# Altium schematic symbol library Texas_Instruments.SchLib: 96 symbols
Pins are listed as number, name and electrical type; pins without a type are passive.

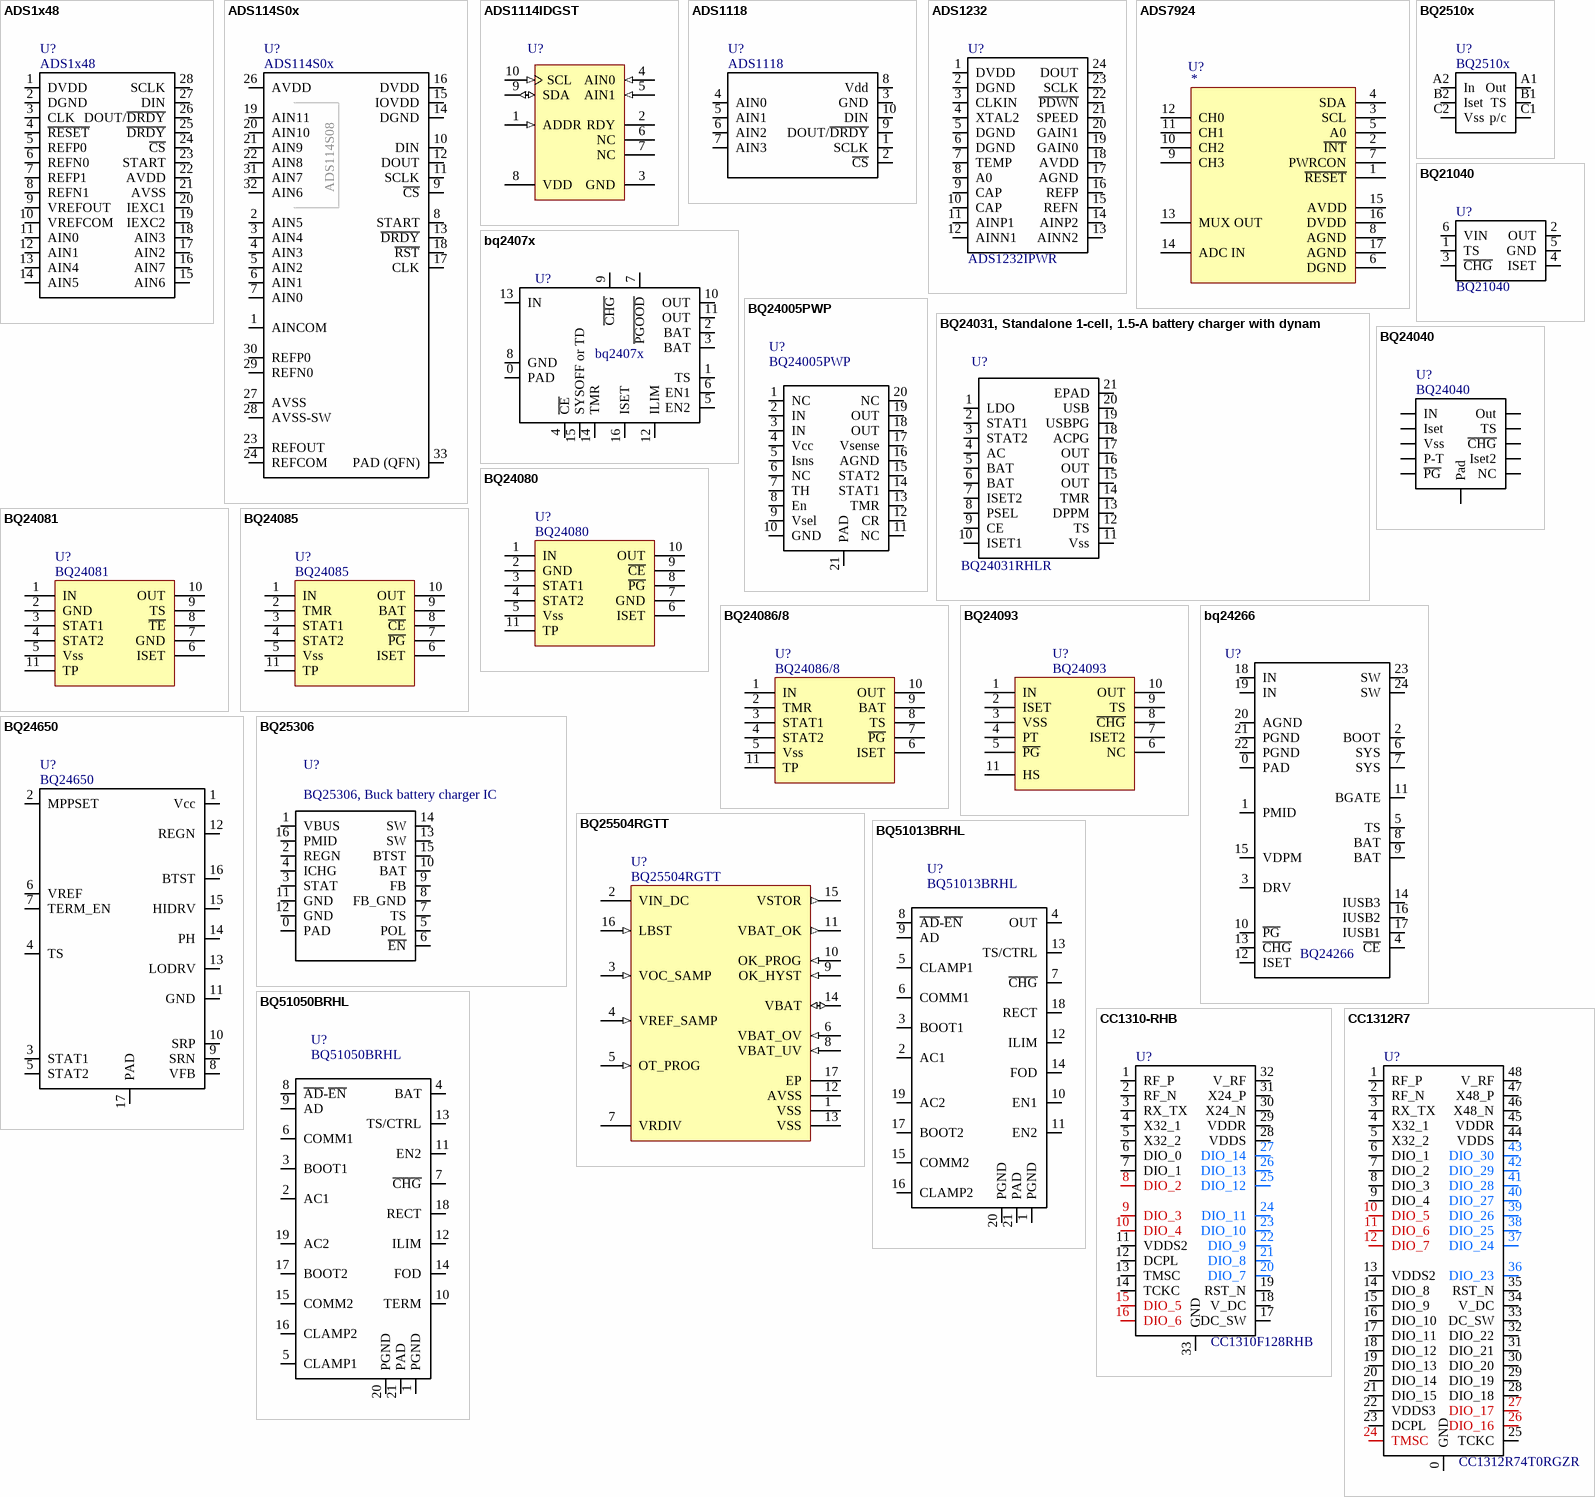
[diagram p0: symbols ADS1x48 to CC1312R7]

## ADS1x48
designator U?
pins: 1 DVDD, 2 DGND, 3 CLK, 4 ~{RESET}, 5 REFP0, 6 REFN0, 7 REFP1, 8 REFN1, 9 VREFOUT, 10 VREFCOM, 11 AIN0, 12 AIN1, 13 AIN4, 14 AIN5, 15 AIN6, 16 AIN7, 17 AIN2, 18 AIN3, 19 IEXC2, 20 IEXC1, 21 AVSS, 22 AVDD, 23 START, 24 ~{CS}, 25 ~{DRDY}, 26 DOUT/~{DRDY}, 27 DIN, 28 SCLK

## ADS114S0x
designator U?
footprint RHB (S-PVQFN-N32) -s (-small central pad)
pins: 1 AINCOM, 2 AIN5, 3 AIN4, 4 AIN3, 5 AIN2, 6 AIN1, 7 AIN0, 8 START, 9 ~{CS}, 10 DIN, 11 SCLK, 12 DOUT, 13 ~{DRDY}, 14 DGND, 15 IOVDD, 16 DVDD, 17 CLK, 18 ~{RST}, 19 AIN11, 20 AIN10, 21 AIN9, 22 AIN8, 23 REFOUT, 24 REFCOM, 26 AVDD, 27 AVSS, 28 AVSS-SW, 29 REFN0, 30 REFP0, 31 AIN7, 32 AIN6, 33 PAD (QFN)
text: ADS114S08

## ADS1114IDGST
designator U?
TEXAS INSTRUMENTS - ADS1114IDGST - IC, ADC 16BIT 860SPS LP 10MSOP; Catalog number: 1762979; Value: ADS1114IDGS
footprint RM-10_N (TSSOP, 10-Leads, Body 3x3mm, Pitch 0.5mm, IPC Medium Density)
pins: 1 ADDR (in) "I2C slave address select", 2 RDY, 3 GND (power) "Ground", 4 AIN0 (in) "Differential channel 1: Positive input or single-ended channel 1 input", 5 AIN1 (in) "Differential channel 1: Negative input or single-ended channel 2 input", 6 NC, 7 NC, 8 VDD (power) "Power supply: 2.0V to 5.5V", 9 SDA (io) "Serial data: Transmits and receives data", 10 SCL (in) "Serial clock input: Clocks data on SDA"

## ADS1118
designator U?
footprint VSSOP-10 (TSSOP, 10-Leads, Body 3,00x3,00mm, Pitch 0,50mm, IPC Medium Density)
pins: 1 SCLK, 2 ~{CS}, 3 GND, 4 AIN0, 5 AIN1, 6 AIN2, 7 AIN3, 8 Vdd, 9 DOUT/~{DRDY}, 10 DIN

## ADS1232
designator U?, comment ADS1232IPWR
ADS1232 2-Channel, 24-Bit, Delta-Sigma ADC for Bridge Sensors; Manufacturer: Texas Instruments; Part Number: ADS1232IPWR; Price 1: 8; Price 100: 3.7; Price 1000: 2.5
footprint PW0024A
pins: 1 DVDD, 2 DGND, 3 CLKIN, 4 XTAL2, 5 DGND, 6 DGND, 7 TEMP, 8 A0, 9 CAP, 10 CAP, 11 AINP1, 12 AINN1, 13 AINN2, 14 AINP2, 15 REFN, 16 REFP, 17 AGND, 18 AVDD, 19 GAIN0, 20 GAIN1, 21 SPEED, 22 ~{PDWN}, 23 SCLK, 24 DOUT

## ADS7924
designator U?
2.2V, 12-Bit, 4-Channel, microPOWER™  ANALOG-TO-DIGITAL CONVERTER WITH I  2C INTERFACE; Value: ADS7924; Price: *
footprint QFN 16 pins 3x3 V2
pins: 1 ~{RESET}, 2 ~{INT}, 3 SCL, 4 SDA, 5 A0, 6 DGND, 7 PWRCON, 8 AGND, 9 CH3, 10 CH2, 11 CH1, 12 CH0, 13 MUX OUT, 14 ADC IN, 15 AVDD, 16 DVDD, 17 AGND

## bq2407x
designator U?
footprint RGT (S-PVQFN-N16)
pins: 0 PAD, 1 TS, 2 BAT, 3 BAT, 4 ~{CE}, 5 EN2, 6 EN1, 7 ~{PGOOD}, 8 GND, 9 ~{CHG}, 10 OUT, 11 OUT, 12 ILIM, 13 IN, 14 TMR, 15 SYSOFF or TD, 16 ISET

## BQ2510x
designator U?, comment value BQ2510x  (hidden comment: BQ2510x, Li Ion battery charger IC)
Manufacturer: Texas Instruments; Part Number: BQ2510x; Price 1: *; Price 100: *; Price 1000: *
footprint YFP0006 (DSBGA 6)
pins: A1 Out, A2 In, B1 TS, B2 Iset, C1 p/c, C2 Vss

## BQ21040
designator U?
footprint SOT26A-6N (SOT23, 6-Leads, Body 2.9x1.7mm, Pitch 0.95mm, Lead Span 2.8mm, IPC Medium Density)
pins: 1 TS, 2 OUT, 3 ~{CHG}, 4 ISET, 5 GND, 6 VIN

## BQ24005PWP
designator U?, comment value BQ24005PWP  (hidden comment: Li-Ion charger IC BQ24005, 2S, Linear)  (graphical)
Manufacturer: Texas Instruments; Part Number: BQ24005PWP; Price 1: 3.52; Price 100: 2.53; Price 1000: 1.82
footprint PWP (R-PDSO-G20)
pins: 1 NC, 2 IN, 3 IN, 4 Vcc, 5 Isns, 6 NC, 7 TH, 8 En, 9 Vsel, 10 GND, 11 NC, 12 CR, 13 TMR, 14 STAT1, 15 STAT2, 16 AGND, 17 Vsense, 18 OUT, 19 OUT, 20 NC, 21 PAD

## BQ24031, Standalone 1-cell, 1.5-A battery charger with dynamic Power Path, 4.1V
designator U?  Part Number: BQ24031RHLR  (hidden comment: BQ24031, Standalone 1-cell, 1.5-A battery charger with dynamic Power Path, 4.1V)
Manufacturer: Texas Instruments
footprint RHL0020A
pins: 1 LDO, 2 STAT1, 3 STAT2, 4 AC, 5 BAT, 6 BAT, 7 ISET2, 8 PSEL, 9 CE, 10 ISET1, 11 Vss, 12 TS, 13 DPPM, 14 TMR, 15 OUT, 16 OUT, 17 OUT, 18 ACPG, 19 USBPG, 20 USB, 21 EPAD

## BQ24040
designator U?
Manufacturer: Texas Instruments; Part Number: BQ24040; Price 1: 1.10; Price 100: 0.71; Price 1000: 0.37
footprint WSON 10 (DSQ0010A)
pins: 0 Pad, 1 IN, 2 Iset, 3 Vss, 4 P-T, 5 ~{PG}, 6 NC, 7 Iset2, 8 ~{CHG}, 9 TS, 10 Out

## BQ24080
designator U?
50 mA SINGLE-CHIP Li-Ion/Li-Pol CHARGE MANAGEMENT IC  C3  4.7 Fm  Input Power  R1  1.5 kW  R2  1.5 kW  WITH THERMAL REGULATION; Catalog: *; Catalog number: *; Price: *
pins: 1 IN, 2 GND, 3 STAT1, 4 STAT2, 5 Vss, 6 ISET, 7 GND, 8 ~{PG}, 9 ~{CE}, 10 OUT, 11 TP

## BQ24081
designator U?
50 mA SINGLE-CHIP Li-Ion/Li-Pol CHARGE MANAGEMENT IC  C3  4.7 Fm  Input Power  R1  1.5 kW  R2  1.5 kW  WITH THERMAL REGULATION; Catalog: *; Catalog number: *; Price: *
pins: 1 IN, 2 GND, 3 STAT1, 4 STAT2, 5 Vss, 6 ISET, 7 GND, 8 ~{TE}, 9 TS, 10 OUT, 11 TP

## BQ24085
designator U?
50 mA SINGLE-CHIP Li-Ion/Li-Pol CHARGE MANAGEMENT IC  C3  4.7 Fm  Input Power  R1  1.5 kW  R2  1.5 kW  WITH THERMAL REGULATION; Catalog: *; Catalog number: *; Price: *
pins: 1 IN, 2 TMR, 3 STAT1, 4 STAT2, 5 Vss, 6 ISET, 7 ~{PG}, 8 ~{CE}, 9 BAT, 10 OUT, 11 TP

## BQ24086/8
designator U?
50 mA SINGLE-CHIP Li-Ion/Li-Pol CHARGE MANAGEMENT IC  C3  4.7 Fm  Input Power  R1  1.5 kW  R2  1.5 kW  WITH THERMAL REGULATION; Catalog: *; Catalog number: *; Price: *
pins: 1 IN, 2 TMR, 3 STAT1, 4 STAT2, 5 Vss, 6 ISET, 7 ~{PG}, 8 TS, 9 BAT, 10 OUT, 11 TP

## BQ24093
designator U?
Battery Management 1A,Sgl-Inp,Sgl-Cell Li-Ion Batt Charger; Catalog: *; Catalog number: *; Price: *
pins: 1 IN, 2 ISET, 3 VSS, 4 PT, 5 ~{PG}, 6 NC, 7 ISET2, 8 ~{CHG}, 9 TS, 10 OUT, 11 HS

## bq24266
designator U?, comment BQ24266
footprint RGE (S-PVQFN-N24)
pins: 0 PAD, 1 PMID, 2 BOOT, 3 DRV, 4 ~{CE}, 5 TS, 6 SYS, 7 SYS, 8 BAT, 9 BAT, 10 ~{PG}, 11 BGATE, 12 ISET, 13 ~{CHG}, 14 IUSB3, 15 VDPM, 16 IUSB2, 17 IUSB1, 18 IN, 19 IN, 20 AGND, 21 PGND, 22 PGND, 23 SW, 24 SW

## BQ24650
designator U?
footprint RVA (S-PVQFN-N16) 0.25mm
pins: 1 Vcc, 2 MPPSET, 3 STAT1, 4 TS, 5 STAT2, 6 VREF, 7 TERM_EN, 8 VFB, 9 SRN, 10 SRP, 11 GND, 12 REGN, 13 LODRV, 14 PH, 15 HIDRV, 16 BTST, 17 PAD

## BQ25306
designator U?, comment BQ25306, Buck battery charger IC
Manufacturer: Texas Instruments; Part Number: BQ25306RTER; Price 1: 1.41; Price 100: 1.17; Price 1000: 0.63
footprint RTE (S-PWQFN-N16)
pins: 0 PAD, 1 VBUS, 2 REGN, 3 STAT, 4 ICHG, 5 POL, 6 ~{EN}, 7 TS, 8 FB_GND, 9 FB, 10 BAT, 11 GND, 12 GND, 13 SW, 14 SW, 15 BTST, 16 PMID

## BQ25504RGTT
designator U?
Value: BQ25504RGTT; Price: *; Catalog: *; Catalog number: *
footprint QFN_16_050p (QFN, 16-Leads, Body 3x3mm, Pitch 0.5mm, Thermal Pad 1.7x1.7mm, TI Recommended)
pins: 1 VSS (power) "Input General ground connection for the device", 2 VIN_DC (power) "DC voltage input from energy harvesters", 3 VOC_SAMP (in) "Sampling pin for MPPT network. To disable MPPT, connect to VSTOR", 4 VREF_SAMP (in) "Switched node for holding the reference set by resistors on VOC_SAMP for MPPT. When MPPT is disabled, input for reference voltage", 5 OT_PROG (in) "Digital Programming input for overtemperature threshold", 6 VBAT_OV (in) "Resistor divider input for over voltage threshold", 7 VRDIV (power) "Resistor divider biasing voltage.", 8 VBAT_UV (in) "Resistor divider input for under voltage threshold", 9 OK_HYST (in) "Resistor divider input for VBAT_OK hysteresis threshold", 10 OK_PROG (in) "Resistor divider input for VBAT_OK threshold", 11 VBAT_OK (out) "Digital battery good indicator referenced to VSTOR pin", 12 AVSS (power) "Signal ground connection for the device", 13 VSS (power) "General ground connection for the device", 14 VBAT (io) "Connection for storage elements", 15 VSTOR (out) "Connection for the system load, output of the boost converter", 16 LBST (in) "Inductor connection for the boost converter switching node", 17 EP "Exposed Thermal Pad"

## BQ51013BRHL
designator U?
Wireless charger IC; Manufacturer: Texas Instruments; Part Number: BQ51013BRHL; Price 100: 1.934; Price 1000: 1.096; Price 1: 2.21
footprint RHL0020A
pins: 1 PGND, 2 AC1, 3 BOOT1, 4 OUT, 5 CLAMP1, 6 COMM1, 7 ~{CHG}, 8 ~{AD}-~{EN}, 9 AD, 10 EN1, 11 EN2, 12 ILIM, 13 TS/CTRL, 14 FOD, 15 COMM2, 16 CLAMP2, 17 BOOT2, 18 RECT, 19 AC2, 20 PGND, 21 PAD

## BQ51050BRHL
designator U?
Wireless charger IC; Manufacturer: Texas Instruments; Part Number: BQ51050BRHL; Price 100: 2.3; Price 1000: 1.3; Price 1: 2.623
footprint RHL0020A
pins: 1 PGND, 2 AC1, 3 BOOT1, 4 BAT, 5 CLAMP1, 6 COMM1, 7 ~{CHG}, 8 ~{AD}-~{EN}, 9 AD, 10 TERM, 11 EN2, 12 ILIM, 13 TS/CTRL, 14 FOD, 15 COMM2, 16 CLAMP2, 17 BOOT2, 18 RECT, 19 AC2, 20 PGND, 21 PAD

## CC1310-RHB
designator U?, comment Part Number: CC1310F128RHB  (hidden comment: SimpleLink™ 32-bit Arm Cortex-M3 Sub-1 GHz wireless MCU with 128kB Flash)
Manufacturer: Texas Instruments; Price 1: 5.351; Price 100: 4.362; Price 1000: 2.908
footprint RHB (S-PVQFN-N32) (Normal size)
pins: 1 RF_P, 2 RF_N, 3 RX_TX, 4 X32_1, 5 X32_2, 6 DIO_0, 7 DIO_1, 8 DIO_2, 9 DIO_3, 10 DIO_4, 11 VDDS2, 12 DCPL, 13 TMSC, 14 TCKC, 15 DIO_5, 16 DIO_6, 17 DC_SW, 18 V_DC, 19 RST_N, 20 DIO_7, 21 DIO_8, 22 DIO_9, 23 DIO_10, 24 DIO_11, 25 DIO_12, 26 DIO_13, 27 DIO_14, 28 VDDS, 29 VDDR, 30 X24_N, 31 X24_P, 32 V_RF, 33 GND

## CC1312R7
designator U?, comment Part Number: CC1312R74T0RGZR  (hidden comment: SimpleLink™ Arm® Cortex®-M4F multiprotocol Sub-1 GHz wireless MCU with 704-kB Flash)
Manufacturer: Texas Instruments; Price 1: 7.18; Price 100: 5.85; Price 1000: 3.90
footprint RGZ0048A (RGZ VQFN 48-pin)
pins: 0 GND, 1 RF_P, 2 RF_N, 3 RX_TX, 4 X32_1, 5 X32_2, 6 DIO_1, 7 DIO_2, 8 DIO_3, 9 DIO_4, 10 DIO_5, 11 DIO_6, 12 DIO_7, 13 VDDS2, 14 DIO_8, 15 DIO_9, 16 DIO_10, 17 DIO_11, 18 DIO_12, 19 DIO_13, 20 DIO_14, 21 DIO_15, 22 VDDS3, 23 DCPL, 24 TMSC, 25 TCKC, 26 DIO_16, 27 DIO_17, 28 DIO_18, 29 DIO_19, 30 DIO_20, 31 DIO_21, 32 DIO_22, 33 DC_SW, 34 V_DC, 35 RST_N, 36 DIO_23, 37 DIO_24, 38 DIO_25, 39 DIO_26, 40 DIO_27, 41 DIO_28, 42 DIO_29, 43 DIO_30, 44 VDDS, 45 VDDR, 46 X48_N, 47 X48_P, 48 V_RF

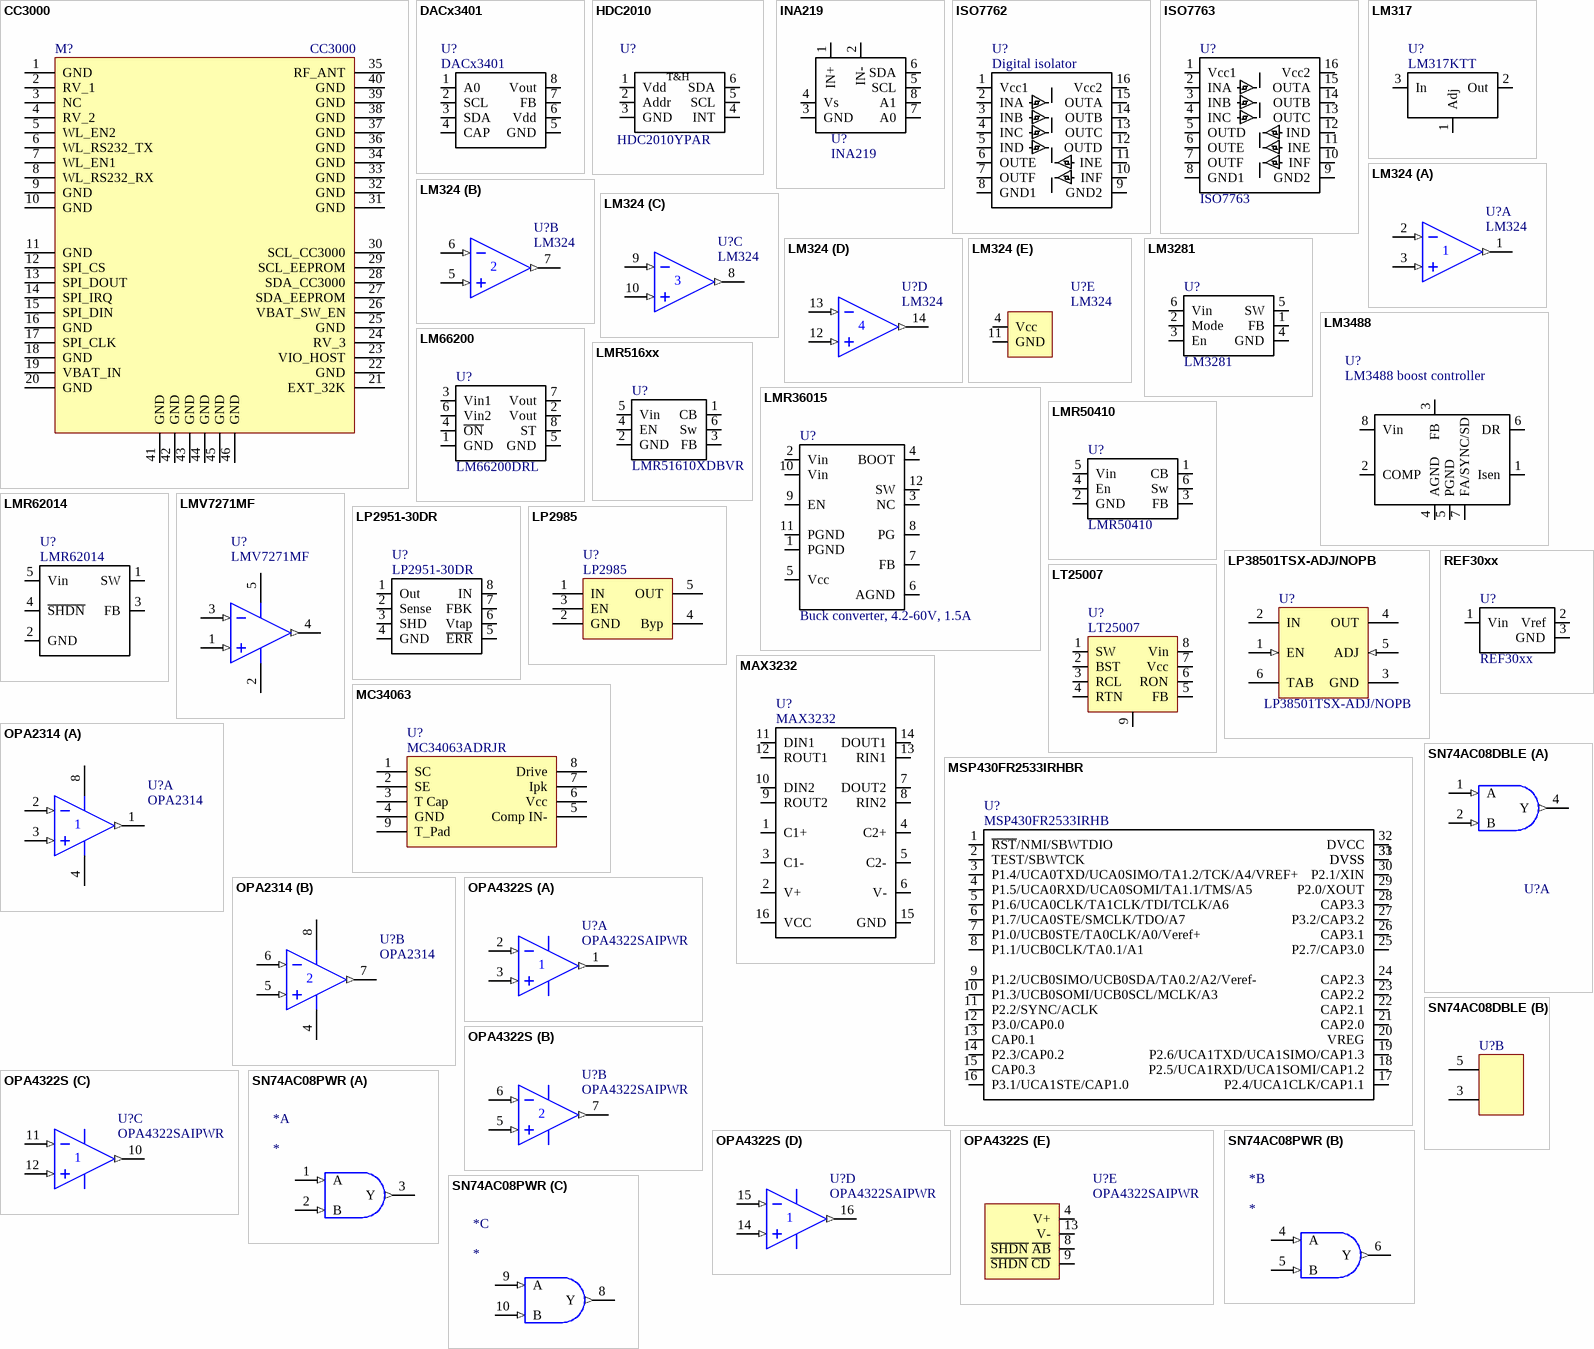
[diagram p1: symbols CC3000 to SN74AC08PWR]

## CC3000
designator M?
TI SimpleLink™ CC3000 Module – Wi-Fi 802.11b/g Network Processor; Value: *; Price: *; Catalog: *; Catalog number: *
footprint CC3000
pins: 1 GND, 2 RV_1, 3 NC, 4 RV_2, 5 WL_EN2, 6 WL_RS232_TX, 7 WL_EN1, 8 WL_RS232_RX, 9 GND, 10 GND, 11 GND, 12 SPI_CS, 13 SPI_DOUT, 14 SPI_IRQ, 15 SPI_DIN, 16 GND, 17 SPI_CLK, 18 GND, 19 VBAT_IN, 20 GND, 21 EXT_32K, 22 GND, 23 VIO_HOST, 24 RV_3, 25 GND, 26 VBAT_SW_EN, 27 SDA_EEPROM, 28 SDA_CC3000, 29 SCL_EEPROM, 30 SCL_CC3000, 31 GND, 32 GND, 33 GND, 34 GND, 35 RF_ANT, 36 GND, 37 GND, 38 GND, 39 GND, 40 GND, 41 GND, 42 GND, 43 GND, 44 GND, 45 GND, 46 GND

## DACx3401
designator U?, comment value DACx3401  (hidden comment: DACx3401, Digital to analog converter)
Manufacturer: Texas Instruments; Prat Number: DACx3401; Price 1: 1; Price 100: 0.6; Price 1000: 0.305
footprint DSG0008A-WSON-8
pins: 1 A0, 2 SCL, 3 SDA, 4 CAP, 5 GND, 6 Vdd, 7 FB, 8 Vout

## HDC2010
designator U?, comment Part Number: HDC2010YPAR  (hidden comment: HDC2010 Temperature and Humidity sensor)
Manufacturer: Texas Instruments; Price 1: 1.62; Price 100: 1.33; Price 1000: 0.72
footprint YPA0006 (DSBGA, wide, 1.45x1.45 - 0.675 mm max height)
pins: 1 Vdd, 2 Addr, 3 GND, 4 INT, 5 SCL, 6 SDA
text: T&H

## INA219
designator U?
footprint SOT23-8_0.25mm
pins: 1 IN+, 2 IN-, 3 GND, 4 Vs, 5 SCL, 6 SDA, 7 A0, 8 A1

## ISO7762
designator U?, comment Digital isolator
footprint DW0016B_HV
pins: 1 Vcc1, 2 INA, 3 INB, 4 INC, 5 IND, 6 OUTE, 7 OUTF, 8 GND1, 9 GND2, 10 INF, 11 INE, 12 OUTD, 13 OUTC, 14 OUTB, 15 OUTA, 16 Vcc2

## ISO7763
designator U?, comment Part Number: ISO7763  (hidden comment: Digital isolator, 3+3 channels)
Manufacturer: Texas Instruments; Price 1: 1.5; Price 100: 1.5; Price 1000: 1.5
footprint DW0016B_HV
pins: 1 Vcc1, 2 INA, 3 INB, 4 INC, 5 OUTD, 6 OUTE, 7 OUTF, 8 GND1, 9 GND2, 10 INF, 11 INE, 12 IND, 13 OUTC, 14 OUTB, 15 OUTA, 16 Vcc2

## LM317
designator U?, comment Part Number: LM317KTT  (hidden comment: LM317, D2PAK)
Manufacturer: Texas Instruments; Price 1: 0.5; Price 100: 0.4; Price 1000: 0.2
footprint TO-263 (D2PAK) 2pin (D2PAK)
pins: 1 Adj, 2 Out, 3 In

## LM324
designator U?
Quad Operational Amplifier; Value: OPA4322SAIPWR; Catalog number: 2211328; Price: 2,17
footprint D (R-PDSO-G14)
part A pins: 1 OUT (out), 2 IN- (in), 3 IN+ (in)
part B pins: 5 IN+ (in), 6 IN- (in), 7 OUT (out)
part C pins: 8 OUT (out), 9 IN- (in), 10 IN+ (in)
part D pins: 12 IN+ (in), 13 IN- (in), 14 OUT (out)
part E pins: 4 Vcc (power), 11 GND (power)

## LM3281
designator U?
footprint LM3281_BAD_ALMIKO
pins: 1 FB, 2 Mode, 3 En, 4 GND, 5 SW, 6 Vin

## LM3488
designator U?, comment LM3488 boost controller
Manufacturer: Texas Instruments; Part Number: LM3488; Price 1: 1.56; Price 100: 1.155; Price 1000: 0.649
footprint DGK (S-PDSO-G8)
pins: 1 Isen, 2 COMP, 3 FB, 4 AGND, 5 PGND, 6 DR, 7 FA/SYNC/SD, 8 Vin

## LM66200
designator U?, comment Part Number: LM66200DRL  (hidden comment: LM66200 1.6 V to 5 V, 2.5-A Dual Ideal Diode With Automatic Switchover)
Manufacturer: Texas Instruments; Price 1: 0.517; Price 100: 0.351; Price 1000: 0.18
footprint DRL0008A (SOT5x3)
pins: 1 GND, 2 Vout, 3 Vin1, 4 ~{ON}, 5 GND, 6 Vin2, 7 Vout, 8 ST

## LMR516xx
designator U?, comment Part Number: LMR51610XDBVR  (hidden comment: LMR516xx SIMPLE SWITCHER® Power Converter, 4-V to 65-V, 0.6-A/1-A Buck Converter in a SOT-23 Package)
Manufacturer: Texas Instruments; Price 1: 1.12; Price 100: 0.86; Price 1000: 0.45
footprint SOT23-6BL (SOT23, 6-Leads, Body 3,1x3,2mm (max), Pitch 0,95mm, IPC Medium Density)
pins: 1 CB, 2 GND, 3 FB, 4 EN, 5 Vin, 6 Sw

## LMR36015
designator U?, comment Buck converter, 4.2-60V, 1.5A
Manufacturer: Texas Instruments; Part Number: LMR36015FBRNXT; Price 1: 2.036; Price 100: 1.784; Price 1000: 1.008
footprint VQFN-HR-RNX0012 (VQFN-HR HotRod package)
pins: 1 PGND, 2 Vin, 3 NC, 4 BOOT, 5 Vcc, 6 AGND, 7 FB, 8 PG, 9 EN, 10 Vin, 11 PGND, 12 SW

## LMR50410
designator U?, comment Part Number: LMR50410  (hidden comment: SIMPLE SWITCHER® 4-V to 36-V, 1-A Buck Converter in SOT-23-6 Package, 700kHz)
Manufacturer: Texas Instruments; Price 1: 0.92; Price 100: 0.703; Price 1000: 0.370
footprint SOT23-6BL (SOT23, 6-Leads, Body 3,1x3,2mm (max), Pitch 0,95mm, IPC Medium Density)
pins: 1 CB, 2 GND, 3 FB, 4 En, 5 Vin, 6 Sw

## LMR62014
designator U?, comment value LMR62014  (hidden comment: LMR62014 Boost regulator, 1.6MHz)
Part Number: LMR62014XMF; Manufacturer: Texas Instruments; Price 1: 1.43; Price 100: 0.852; Price 1000: 0.627
footprint SOT23-5BL (SOT23, 5-Leads, Body 2.9x1.6mm, Pitch 0.95mm, Lead Span 2.8mm, IPC High Density)
pins: 1 SW, 2 GND, 3 FB, 4 ~{SHDN}, 5 Vin

## LMV7271MF
designator U?
Catalog: Farnell; Catalog number: 9779795; Value: LMV7271MF; Catalog page: *; Price: 0.524
footprint SOT353-5AM
pins: 1 +IN (in), 2 -VS (power), 3 -IN (in), 4 OUT (out), 5 +VS (power)

## LP2951-30DR
designator U?
Manufacturer: Texas Instruments; Part Number: LP2951-30DR; Price 1: *; Price 100: *; Price 1000: *
footprint LT-S8-8_N (SOIC, 8-Leads, Body 4.9x3.9mm, Pitch 1.27mm, IPC Medium Density)
pins: 1 Out, 2 Sense, 3 SHD, 4 GND, 5 ~{ERR}, 6 Vtap, 7 FBK, 8 IN

## LP2985
designator U?, comment value LP2985  (hidden comment: LP2985, LDO, Vin 16V, Imax 150mA)
Manufacturer: Texas Instruments; Part Number: LP2985; Price 1: 0.436; Price 100: 0.219; Price 1000: 0.096
footprint SOT23-5BL (SOT23, 5-Leads, Body 2.9x1.6mm, Pitch 0.95mm, Lead Span 2.8mm, IPC High Density)
pins: 1 IN, 2 GND, 3 EN, 4 Byp, 5 OUT

## LP38501TSX-ADJ/NOPB
designator U?
LP38501TSX-ADJ/NOPB Fast transient Low Dropout LDO
footprint D2-PAK (D2-PAK, 6-Pads, Body 9.4x10.5mm (max), IPC Medium Density)
pins: 1 EN (in), 2 IN (power), 3 GND (power), 4 OUT (power), 5 ADJ (in), 6 TAB (power)

## LT25007
designator U?
Catalog: Farnell; Catalog number: 1312550; Catalog page: http://lv.farnell.com/national-semiconductor/lm25007sd/reg-step-down-switch-smd-llp-8/dp/1312550; Price: *
footprint LLP-10 3x3 (SON, 10-Leads, Body 3x3mm, Pitch 0.5mm, Thermal Pad 2.4x1.65mm, TI Recommended)
pins: 1 SW, 2 BST, 3 RCL, 4 RTN, 5 FB, 6 RON, 7 Vcc, 8 Vin, 9 TB

## MAX3232
designator U?
3-V to 5.5-V Multichannel RS-232 Line Driver and Receiver; Manufacturer: Texas Instruments; Part Number: *; Price 1: *; Price 100: *; Price 1000: *
footprint D (R-PDSO-G16)
pins: 1 C1+, 2 V+, 3 C1-, 4 C2+, 5 C2-, 6 V-, 7 DOUT2, 8 RIN2, 9 ROUT2, 10 DIN2, 11 DIN1, 12 ROUT1, 13 RIN1, 14 DOUT1, 15 GND, 16 VCC

## MC34063
designator U?, comment MC34063ADRJR
Catalog: Farnell; Catalog number: 2323542; Value: MC34063ADRJR; Price: *
footprint QFN 8 0.8pich
pins: 1 SC, 2 SE, 3 T Cap, 4 GND, 5 Comp IN-, 6 Vcc, 7 Ipk, 8 Drive, 9 T_Pad

## MSP430FR2533IRHBR
designator U?, comment MSP430FR2533IRHB
Manufacturer: Texas Instruments; Part Number: MSP430FR2533IRHB; Price 1: *; Price 100: *; Price 1000: *
footprint RHB (S-PVQFN-N32) (Normal size)
pins: 1 ~{RST}/NMI/SBWTDIO, 2 TEST/SBWTCK, 3 P1.4/UCA0TXD/UCA0SIMO/TA1.2/TCK/A4/VREF+, 4 P1.5/UCA0RXD/UCA0SOMI/TA1.1/TMS/A5, 5 P1.6/UCA0CLK/TA1CLK/TDI/TCLK/A6, 6 P1.7/UCA0STE/SMCLK/TDO/A7, 7 P1.0/UCB0STE/TA0CLK/A0/Veref+, 8 P1.1/UCB0CLK/TA0.1/A1, 9 P1.2/UCB0SIMO/UCB0SDA/TA0.2/A2/Veref-, 10 P1.3/UCB0SOMI/UCB0SCL/MCLK/A3, 11 P2.2/SYNC/ACLK, 12 P3.0/CAP0.0, 13 CAP0.1, 14 P2.3/CAP0.2, 15 CAP0.3, 16 P3.1/UCA1STE/CAP1.0, 17 P2.4/UCA1CLK/CAP1.1, 18 P2.5/UCA1RXD/UCA1SOMI/CAP1.2, 19 P2.6/UCA1TXD/UCA1SIMO/CAP1.3, 20 VREG, 21 CAP2.0, 22 CAP2.1, 23 CAP2.2, 24 CAP2.3, 25 P2.7/CAP3.0, 26 CAP3.1, 27 P3.2/CAP3.2, 28 CAP3.3, 29 P2.0/XOUT, 30 P2.1/XIN, 31 DVSS, 32 DVCC, 33 DVSS

## OPA2314
designator U?
Dual Operational Amplifier; Published: 15-Apr-2002; LatestRevisionDate: 13-Apr-2006; LatestRevisionNote: IPC-7351 Footprint Added.; DatasheetVersion: Aug-1988; PackageVersion: Jan-1998; PackageReference: D008; Publisher: Altium Limited; PackageDescription: 8-Pin Small Outline Integrated Circuit 1.27 mm Pitch; Code_IPC: SOIC127P600-8; ComponentLink1Description: Manufacturer Link; ComponentLink1URL: http://www.ti.com/; ComponentLink2Description: Datasheet; ComponentLink2URL: http://www-s.ti.com/sc/ds/lm358.pdf
footprint MSOP 8pin 0.65p
pins on every part: 4 V- (power), 8 V+ (power)
part A pins: 1 OUT (out), 2 IN- (in), 3 IN+ (in)
part B pins: 5 IN+ (in), 6 IN- (in), 7 OUT (out)

## OPA4322S
designator U?, comment OPA4322SAIPWR
Dual Operational Amplifier; Catalog number: 2211328; Value: OPA4322SAIPWR; Price: 2,17
footprint TSSOP-16 Lead (TSSOP, 16-Leads, Body 5.0x4.4mm (max), Pitch 0.65mm, IPC High Density)
part A pins: 1 OUT (out), 2 IN- (in), 3 IN+ (in)
part B pins: 5 IN+ (in), 6 IN- (in), 7 OUT (out)
part C pins: 10 OUT (out), 11 IN- (in), 12 IN+ (in)
part D pins: 14 IN+ (in), 15 IN- (in), 16 OUT (out)
part E pins: 4 V+ (power), 8 ~{SHDN} ~{AB}, 9 ~{SHDN} ~{CD}, 13 V- (power)

## REF30xx
designator U?, comment Part Number: REF30xx  (hidden comment: 50-ppm/°C, 50-µA in 3-pin SOT-23 voltage reference)
Manufacturer: Texas Instruments; Price 100: 0.3; Price 1: 0.3; Price 1000: 0.26
footprint SOT23-3-IPC (SOT23, 3-Leads, Body 2.9x1.3mm, Pitch 0.95mm, Lead Span 2.5mm, IPC Recommended)
pins: 1 Vin, 2 Vref, 3 GND

## SN74AC08DBLE
designator U?
Quadruple 2-Input Positive-AND Gate; Published: 8-Jun-2000; LatestRevisionDate: 04-Mar-2005; LatestRevisionNote: Stylized 3D Model Added.; DatasheetVersion: Sep-1996; PackageVersion: May-1999; PackageReference: DB014; Publisher: Altium Limited; PackageDescription: SSOP, Plastic; 14 Leads; Body Width 5.3 mm; Pitch 0.65 mm; Code_JEDEC: MO-150-AB; ComponentLink1Description: Manufacturer Link; ComponentLink1URL: http://www.ti.com/; ComponentLink2Description: Datasheet; ComponentLink2URL: http://www-s.ti.com/sc/ds/sn74ac08.pdf; ComponentLink3Description: Packaging Specification; ComponentLink3URL: http://focus.ti.com/lit/ml/msso002e/msso002e.pdf
footprint SOT353-5L (SOT353, 5-Leads, Body 2x1.3mm, Pitch 0.65mm, Lead Span 2.1mm, IPC High Density)
pins on every part: 7 GND (power) hidden to GND, 14 VCC (power) hidden to VCC
part A pins: 1 A (in), 2 B (in), 4 Y (out)
part B pins: 3 GND (power), 5 Vcc (power)

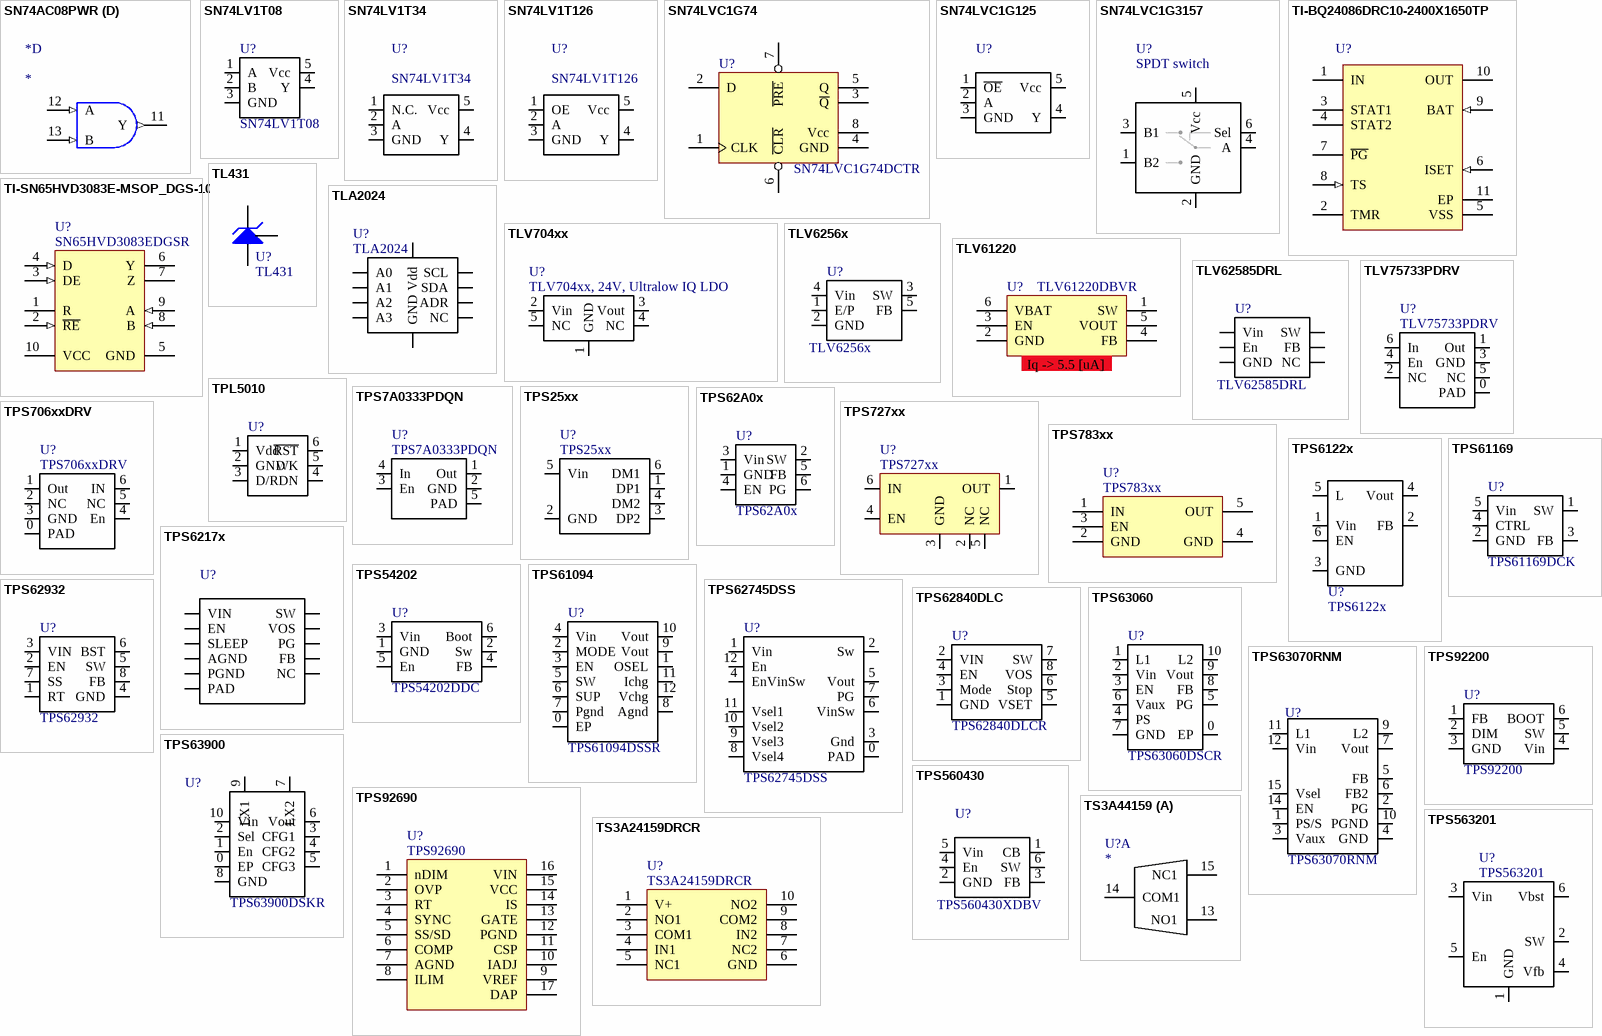
[diagram p2: symbols SN74AC08PWR to TS3A44159]

## SN74AC08PWR
designator *
footprint TSSOP-14 PICH 0.65
part A pins: 1 A (in), 2 B (in), 3 Y (out), 7 GND hidden, 14 Vcc hidden
part B pins: 4 A (in), 5 B (in), 6 Y (out)
part C pins: 8 Y (out), 9 A (in), 10 B (in)
part D pins: 11 Y (out), 12 A (in), 13 B (in)

## SN74LV1T08
designator U?, comment Part Number: SN74LV1T08  (hidden comment: Single Power Supply 2-Input Positive AND Gate CMOS Logic Level Shifter)
Manufacturer: Texas Instruments; Price 1: 0.344; Price 100: 0.234; Price 1000: 0.12
footprint SOT23-5BL (SOT23, 5-Leads, Body 2.9x1.6mm, Pitch 0.95mm, Lead Span 2.8mm, IPC High Density)
pins: 1 A, 2 B, 3 GND, 4 Y, 5 Vcc

## SN74LV1T34
designator U?
footprint SOT23-5BL (SOT23, 5-Leads, Body 2.9x1.6mm, Pitch 0.95mm, Lead Span 2.8mm, IPC High Density)
footprint DCK (R-PDSO-G5)
pins: 1 N.C., 2 A, 3 GND, 4 Y, 5 Vcc

## SN74LV1T126
designator U?
footprint SOT23-5BL (SOT23, 5-Leads, Body 2.9x1.6mm, Pitch 0.95mm, Lead Span 2.8mm, IPC High Density)
footprint DCK (R-PDSO-G5)
pins: 1 OE, 2 A, 3 GND, 4 Y, 5 Vcc

## SN74LVC1G74
designator U?, comment SN74LVC1G74DCTR
SN74LVC1G74; Catalog number: 2334899; Value: SN74LVC1G74DCTR
footprint MSOP 8pin 0.65p
pins: 1 CLK, 2 D, 3 ~{Q}, 4 GND, 5 Q, 6 ~{CLR}, 7 ~{PRE}, 8 Vcc

## SN74LVC1G125
designator U?, comment Single Bus Buffer Gate With 3-State Output  (value not drawn)
Manufacturer: Texas Instruments; Part Number: SN74LVC1G125DBV; Price 100: 0.054; Price 1: 0.083; Price 1000: 0.027
footprint SOT23-5BL (SOT23, 5-Leads, Body 2.9x1.6mm, Pitch 0.95mm, Lead Span 2.8mm, IPC High Density)
pins: 1 ~{OE}, 2 A, 3 GND, 4 Y, 5 Vcc

## SN74LVC1G3157
designator U?, comment SPDT switch
footprint SOT23-6BL (SOT23, 6-Leads, Body 3,1x3,2mm (max), Pitch 0,95mm, IPC Medium Density)
pins: 1 B2, 2 GND, 3 B1, 4 A, 5 Vcc, 6 Sel

## TI-BQ24086DRC10-2400X1650TP
designator U?
footprint LLP-10 3x3 (SON, 10-Leads, Body 3x3mm, Pitch 0.5mm, Thermal Pad 2.4x1.65mm, TI Recommended)
pins: 1 IN (power) "Charge Input Voltage and internal supply. Connect a 1- uF (minimum) capacitor from IN to VSS. CIN >= COUT", 2 TMR "Safety Timer Program Input, timer disabled if floating. Connect a resistor to VSS pin to program safety timer timeout value", 3 STAT1 (hiz) "Charge Status Output 1", 4 STAT2 (hiz) "Charge Status Output 2", 5 VSS (power) "Ground", 6 ISET (in) "Charge current set point, resistor connected from ISET to VSS sets charge current value. Connect a 0.1-uF capacitor from BAT to ISET for I(OUT) < 200 mA.", 7 ~{PG} (hiz) "Power Good status output (open-collector), active low", 8 TS (in) "Temperature Sense Input, connect to battery pack thermistor. Connect an external resistive divider to program temperature thresholds.", 9 BAT (in) "Battery Voltage Sense Input. Connect to the battery positive terminal. Connect a 390-ohm resistor from BAT to OUT for I(OUT) < 200 mA.", 10 OUT (power) "Charge current output. Connect to the battery positive terminal. Connect a 1- uF (minimum) capacitor from OUT to VSS.", 11 EP (power) "There is an internal electrical connection between the exposed thermal pad and Vss pin of the IC. The exposed thermal pad must be connected to the same potential as the VSS pin on the printed circuit board. Do not use the (See Datasheet)"

## TI-SN65HVD3083E-MSOP_DGS-10
designator U?, comment SN65HVD3083EDGSR
Value: SN65HVD3083EDGSR
footprint RM-10_N (TSSOP, 10-Leads, Body 3x3mm, Pitch 0.5mm, IPC Medium Density)
pins: 1 R (hiz), 2 ~{RE} (in), 3 DE (in), 4 D (in), 5 GND (power), 6 Y (hiz), 7 Z (hiz), 8 B (in), 9 A (in), 10 VCC (power)

## TL431
designator U?, comment Part Number: TL431  (hidden comment: 2.495V shunt refernce, SOT23)
Manufacturer: Texas Instruments; Price 1: *; Price 100: *; Price 1000: *
footprint SOT23-3-IPC (SOT23, 3-Leads, Body 2.9x1.3mm, Pitch 0.95mm, Lead Span 2.5mm, IPC Recommended)
pins: 1 K, 2 Ref, 3 A

## TLA2024
designator U?, comment Part Number: TLA2024  (hidden comment: TLA2024, 12-bit ADC, 4ch, with PGA)
Manufacturer: Texas Instruments; Price 1: 1.52; Price 100: 0.942; Price 1000: 0.507
footprint X2QFN (10) (X2QFN (10),  1.50 mm × 2.00 mm)
pins: 1 ADR, 2 NC, 3 GND, 4 A0, 5 A1, 6 A2, 7 A3, 8 Vdd, 9 SDA, 10 SCL

## TLV704xx
designator U?, comment TLV704xx, 24V, Ultralow IQ LDO
footprint SOT23-5BL (SOT23, 5-Leads, Body 2.9x1.6mm, Pitch 0.95mm, Lead Span 2.8mm, IPC High Density)
pins: 1 GND, 2 Vin, 3 Vout, 4 NC, 5 NC

## TLV6256x
designator U?
Manufacturer: Texas Instruments; Part Number: TLV6256x
footprint SOT23-5BL (SOT23, 5-Leads, Body 2.9x1.6mm, Pitch 0.95mm, Lead Span 2.8mm, IPC High Density)
pins: 1 E/P, 2 GND, 3 SW, 4 Vin, 5 FB

## TLV61220
designator U?, comment TLV61220DBVR
TEXAS INSTRUMENTS - TLV61220DBVR - DC-DC CONV, BOOST, SOT-23-6; Catalog: Mouser; Catalog number: 595-TLV61220DBVR; Price: 0.635; Value: TLV61220DBVR
footprint SOT26A-6L (SOT23, 6-Leads, Body 2.9x1.7mm, Pitch 0.95mm, Lead Span 2.8mm, IPC High Density)
pins: 1 SW, 2 GND, 3 EN, 4 FB, 5 VOUT, 6 VBAT
text: Iq -> 5.5 [uA]

## TLV62585DRL
designator U?, comment Part Number: TLV62585DRL  (hidden comment: 3-A High Efficiency Synchronous Buck Converter in SOT563 Package)
Manufacturer: Texas Instruments; Price 1: 0.33; Price 100: 0.26; Price 1000: 0.132
footprint SOT563
pins: 1 GND, 2 SW, 3 Vin, 4 En, 5 FB, 6 NC

## TLV75733PDRV
designator U?, comment value TLV75733PDRV  (hidden comment: LDO Voltage Regulators 1-A low-IQ small-size low-dropout (LDO) regulator 6-WSON -40 to 125)
Manufacturer: Texas Instruments; Part Number: TLV75733PDRV; Price 1: 0.52; Price 100: 0.30; Price 1000: 0.13
footprint DRV0006A (WSON 6)
pins: 0 PAD, 1 Out, 2 NC, 3 GND, 4 En, 5 NC, 6 In

## TPL5010
designator U?, comment Nano-Power System Timer With Watchdog Function  (value not drawn)
Manufacturer: Texas Instruments; Part Number: TPL5010DDC; Price 1: 0.7; Price 100: 0.53; Price 1000: 0.29
footprint SOT23-6BL (SOT23, 6-Leads, Body 3,1x3,2mm (max), Pitch 0,95mm, IPC Medium Density)
pins: 1 Vdd, 2 GND, 3 D/R, 4 DN, 5 WK, 6 ~{RST}

## TPS7A0333PDQN
designator U?, comment value TPS7A0333PDQN  (hidden comment: TPS7A0333PDQN, 200nA Iq LDO, 3.3V, X2SON)
Manufacturer: Texas Instruments; Part Number: TPS7A0333PDQN; Price 1: 0.747; Price 100: 0.463; Price 1000: 0.241
footprint DQN0004A (DQN0004A (X2SON 4))
pins: 1 Out, 2 GND, 3 En, 4 In, 5 PAD

## TPS25xx
designator U?
footprint SOT23-6BL (SOT23, 6-Leads, Body 3,1x3,2mm (max), Pitch 0,95mm, IPC Medium Density)
pins: 1 DP1, 2 GND, 3 DP2, 4 DM2, 5 Vin, 6 DM1

## TPS62A0x
designator U?, comment Part Number: TPS62A0x  (hidden comment: Sync buck 2A, SOT563)
Manufacturer: Texas Instruments
footprint SOT563
pins: 1 GND, 2 SW, 3 Vin, 4 EN, 5 FB, 6 PG

## TPS706xxDRV
designator U?, comment value TPS706xxDRV  (hidden comment: TPS706xxDRV, LDO, 1uA, 3.3V)
Manufacturer: Texas Instruments; Part Number: TPS706xxDRV; Price 1: 0.808; Price 100: 0.455; Price 1000: 0.214
footprint DRV0006A (WSON 6)
pins: 0 PAD, 1 Out, 2 NC, 3 GND, 4 En, 5 NC, 6 IN

## TPS727xx
designator U?
LDO, Iq=10uA, fast transient 50 mV, RF suited; Catalog: Farnell; Catalog number: 2492505; Price: *
footprint S-PWSON-N6 (Power SON for TPS727xx)
pins: 1 OUT, 2 NC, 3 GND, 4 EN, 5 NC, 6 IN

## TPS783xx
designator U?
LDO, Ultra-Low Quiescent Current, Iq=500nA; Catalog: Farnell; Catalog number: 1815777; Price: *
footprint SOT23-5BL (SOT23, 5-Leads, Body 2.9x1.6mm, Pitch 0.95mm, Lead Span 2.8mm, IPC High Density)
pins: 1 IN, 2 GND, 3 EN, 4 GND, 5 OUT

## TPS6122x
designator U?
footprint SOT323-6 (SOT323-5)
pins: 1 Vin, 2 FB, 3 GND, 4 Vout, 5 L, 6 EN

## TPS6217x
designator U?, comment TPS6217x, Ultralow Iq buck regulator  (value not drawn)
Manufacturer: Texas Instruments; Part Number: TPS6217x; Price 100: *; Price 1000: *
footprint WSON (DQC0010A)
pins: 0 PAD, 1 PGND, 2 VIN, 3 EN, 4 NC, 5 FB, 6 AGND, 7 PG, 8 SLEEP, 9 SW, 10 VOS

## TPS54202
designator U?, comment Part Number: TPS54202DDC  (hidden comment: 4.5-V to 28-V Input, 2-A Output, EMI Friendly  Synchronous Step Down Converter)
Manufacturer: Texas Instruments; Price 1: 0.5; Price 100: 0.4; Price 1000: 0.2
footprint SOT23-6BL (SOT23, 6-Leads, Body 3,1x3,2mm (max), Pitch 0,95mm, IPC Medium Density)
pins: 1 GND, 2 Sw, 3 Vin, 4 FB, 5 En, 6 Boot

## TPS61094
designator U?, comment Part Number: TPS61094DSSR  (hidden comment: Boost Converter with Supercap Management)
Manufacturer: Texas Instruments; Price 1: 2.42; Price 100: 2.12; Price 1000: 1.20
footprint DSS0012B
pins: 0 EP, 1 OSEL, 2 MODE, 3 EN, 4 Vin, 5 SW, 6 SUP, 7 Pgnd, 8 Agnd, 9 Vout, 10 Vout, 11 Ichg, 12 Vchg

## TPS61169
designator U?, comment Part Number: TPS61169DCK  (hidden comment: TPS61169 38-V High Current-Boost WLED Driver With PWM Control)
Manufacturer: Texas Instruments; Price 1: 0.65; Price 100: 0.5; Price 1000: 0.263
footprint SOT353-5L (SOT353, 5-Leads, Body 2x1.3mm, Pitch 0.65mm, Lead Span 2.1mm, IPC High Density)
pins: 1 SW, 2 GND, 3 FB, 4 CTRL, 5 Vin

## TPS62745DSS
designator U?, comment Part Number: TPS62745DSS  (hidden comment: 3.3V-10V input, 300mA Ultra Low Iq step-down converter with VSEL and input voltage switch)
Manufacturer: Texas Instruments; Price 1: 1.1; Price 100: 0.86; Price 1000: 0.5
footprint DSS0012A
pins: 0 PAD, 1 Vin, 2 Sw, 3 Gnd, 4 EnVinSw, 5 Vout, 6 VinSw, 7 PG, 8 Vsel4, 9 Vsel3, 10 Vsel2, 11 Vsel1, 12 En

## TPS62840DLC
designator U?, comment Part Number: TPS62840DLCR  (hidden comment: TPS62840 1.8-V to 6.5-V, 750-mA, 60-nA IQ Step-Down Converter)
Manufacturer: Texas Instruments; Price 1: 1.5; Price 100: 1.2; Price 1000: 0.65
footprint DLC0008B
pins: 1 GND, 2 VIN, 3 Mode, 4 EN, 5 VSET, 6 Stop, 7 SW, 8 VOS

## TPS62932
designator U?, comment Part Number: TPS62932  (hidden comment: Synchronous Buck Converter)
3.8-30V 2A Synchronous Buck Converter; Manufacturer: Texas Instruments; Price 1: 0.55; Price 100: 0.37; Price 1000: 0.19
footprint DRL0008A (SOT5x3)
pins: 1 RT, 2 EN, 3 VIN, 4 GND, 5 SW, 6 BST, 7 SS, 8 FB

## TPS63060
designator U?, comment Part Number: TPS63060DSCR  (hidden comment: 2.5-12V Buck-Boost converter)
Manufacturer: Texas Instruments; Price 1: 1.83; Price 100: 1.61; Price 1000: 0.91
footprint DSC (S-PWSON-N10) (WSON (10))
pins: 0 EP, 1 L1, 2 Vin, 3 EN, 4 PS, 5 PG, 6 Vaux, 7 GND, 8 FB, 9 Vout, 10 L2

## TPS63070RNM
designator U?, comment Part Number: TPS63070RNM  (hidden comment: 2-V to 16-V Buck-Boost Converter)
Manufacturer: Texas Instruments; Price 1: 2.034; Price 100: 1.782; Price 1000: 1.007
footprint RNM0015A (VQFN 2.5x3mm)
pins: 1 PS/S, 2 PG, 3 Vaux, 4 GND, 5 FB, 6 FB2, 7 Vout, 9 L2, 10 PGND, 11 L1, 12 Vin, 14 EN, 15 Vsel

## TPS63900
designator U?, comment Part Number: TPS63900DSKR  (hidden comment: Switching Voltage Regulators 1.8-V to 5.5-V, 75-nA IQ buck-boost converter with input current limit and Dynamic Voltage Scaling)
Manufacturer: Teas Instruments; Price 1: 1.46; Price 100: 1.21; Price 1000: 0.65
footprint DSK0010A (WSON - 0.8 mm max height, 10 pins, 0.25mm pitch)
pins: 0 EP, 1 En, 2 Sel, 3 CFG1, 4 CFG2, 5 CFG3, 6 Vout, 7 LX2, 8 GND, 9 LX1, 10 Vin

## TPS92200
designator U?, comment Part Number: TPS92200  (hidden comment: TPS92200 4-V to 30-V Input Voltage, 1.5-A Output Current, Synchronous Buck LED Driver With Flexible Dimming Options)
Manufacturer: Texas Instruments; Price 1: 0.365; Price 100: 0.281; Price 1000: 0.148
footprint SOT23-6BL (SOT23, 6-Leads, Body 3,1x3,2mm (max), Pitch 0,95mm, IPC Medium Density)
pins: 1 FB, 2 DIM, 3 GND, 4 Vin, 5 SW, 6 BOOT

## TPS92690
designator U?
N-Channel Controller for Dimmable LED Drives with Low-Side Current Sense; Value: TPS92690
footprint TSSOP-16 Lead (TSSOP, 16-Leads, Body 5.0x4.4mm (max), Pitch 0.65mm, IPC High Density)
pins: 1 nDIM, 2 OVP, 3 RT, 4 SYNC, 5 SS/SD, 6 COMP, 7 AGND, 8 ILIM, 9 VREF, 10 IADJ, 11 CSP, 12 PGND, 13 GATE, 14 IS, 15 VCC, 16 VIN, 17 DAP

## TPS560430
designator U?, comment Part Number: TPS560430XDBV  (hidden comment: TPS560430XDBV, 4V to 36V buck, 0.6A)
Manufacturer: Texas Instruments; Price 1: 0.672; Price 100: 0.556; Price 1000: 0.3
footprint SOT23-6BL (SOT23, 6-Leads, Body 3,1x3,2mm (max), Pitch 0,95mm, IPC Medium Density)
pins: 1 CB, 2 GND, 3 FB, 4 En, 5 Vin, 6 SW

## TPS563201
designator U?
footprint SOT23-6BL (SOT23, 6-Leads, Body 3,1x3,2mm (max), Pitch 0,95mm, IPC Medium Density)
pins: 1 GND, 2 SW, 3 Vin, 4 Vfb, 5 En, 6 Vbst

## TS3A24159DRCR
designator U?
TEXAS INSTRUMENTS  TS3A24159DRCR  ANALOGUE SWITCH, DUAL, SPDT, SON-10; Catalog: Farnell; Catalog number: 2382822; Value: TS3A24159DRCR
footprint DRC10-2400X1650TP (SON, 10-Leads, Body 3x3mm, Pitch 0.5mm, Thermal Pad 2.4x1.65mm, TI Recommended)
pins: 1 V+, 2 NO1, 3 COM1, 4 IN1, 5 NC1, 6 GND, 7 NC2, 8 IN2, 9 COM2, 10 NO2

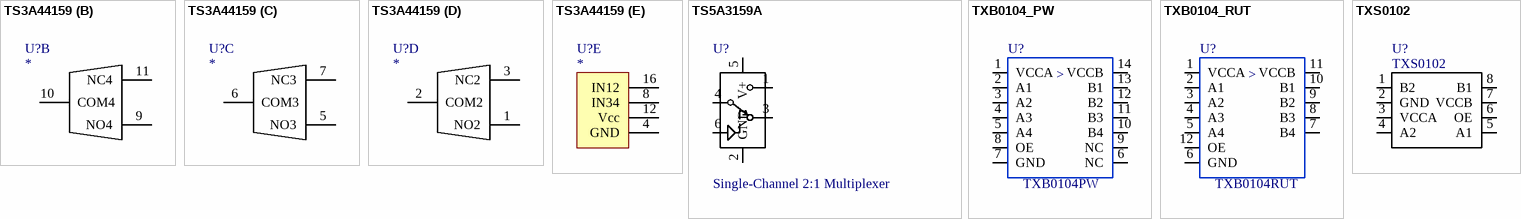
[diagram p3: symbols TS3A44159 to TXS0102]

## TS3A44159
designator U?
footprint TSSOP-16 Lead (TSSOP, 16-Leads, Body 5.0x4.4mm (max), Pitch 0.65mm, IPC High Density)
part A pins: 4 GND hidden, 12 Vcc hidden, 13 NO1, 14 COM1, 15 NC1
part B pins: 9 NO4, 10 COM4, 11 NC4
part C pins: 5 NO3, 6 COM3, 7 NC3
part D pins: 1 NO2, 2 COM2, 3 NC2
part E pins: 4 GND, 8 IN34, 12 Vcc, 16 IN12

## TS5A3159A
designator U?, comment Single-Channel 2:1 Multiplexer
Manufacturer: Texas Instruments; Part Number: TS5A3159ADBV; Price 1: 0.445; Price 100: 0.35; Price 1000: 0.18
footprint SOT23-6BL (SOT23, 6-Leads, Body 3,1x3,2mm (max), Pitch 0,95mm, IPC Medium Density)
pins: 1 NO, 2 GND, 3 NC, 4 COM, 5 V+, 6 IN

## TXB0104_PW
designator U?, comment TXB0104PW
footprint SOP14_0.25
pins: 1 VCCA, 2 A1, 3 A2, 4 A3, 5 A4, 6 NC, 7 GND, 8 OE, 9 NC, 10 B4, 11 B3, 12 B2, 13 B1, 14 VCCB
text: <

## TXB0104_RUT
designator U?, comment TXB0104RUT
footprint RUT (R-PUQFN-N12)
pins: 1 VCCA, 2 A1, 3 A2, 4 A3, 5 A4, 6 GND, 7 B4, 8 B3, 9 B2, 10 B1, 11 VCCB, 12 OE
text: <

## TXS0102
designator U?
Manufacturer: Texas Instruments; Part Number: TXS0102
pins: 1 B2, 2 GND, 3 VCCA, 4 A2, 5 A1, 6 OE, 7 VCCB, 8 B1